# Altium schematic symbol library ERJ-6GEYJ204V.SchLib: 1 symbol
Pins are listed as number, name and electrical type; pins without a type are passive.

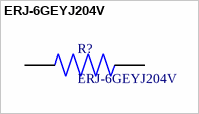
[diagram p0: symbol ERJ-6GEYJ204V]

## ERJ-6GEYJ204V
designator R?
Resistor;Thick Film;Res 200 Kilohms;Pwr-Rtg 0.125 W;Tol 5%;SMT;0805;Tape & Reel; Package: None; Price: None; Value: *; MP: ERJ-6GEYJ204V; Availability: Unavailable
footprint RESC2012X70N
pins: 1, 1, 2, 2